# Altium footprint library SOP_65P_N.PcbLib: 37 footprints (part 1 of 3)
Each footprint in its own frame and in the unit in brackets; x right, y up, seen from the top. Pads: shape width x height; smd on the part's side, far side on the other; paste and mask are expansions set on the pad; w line width, h text height; cw(c..) or ccw(c..) is an arc to the next point about the centre after c.
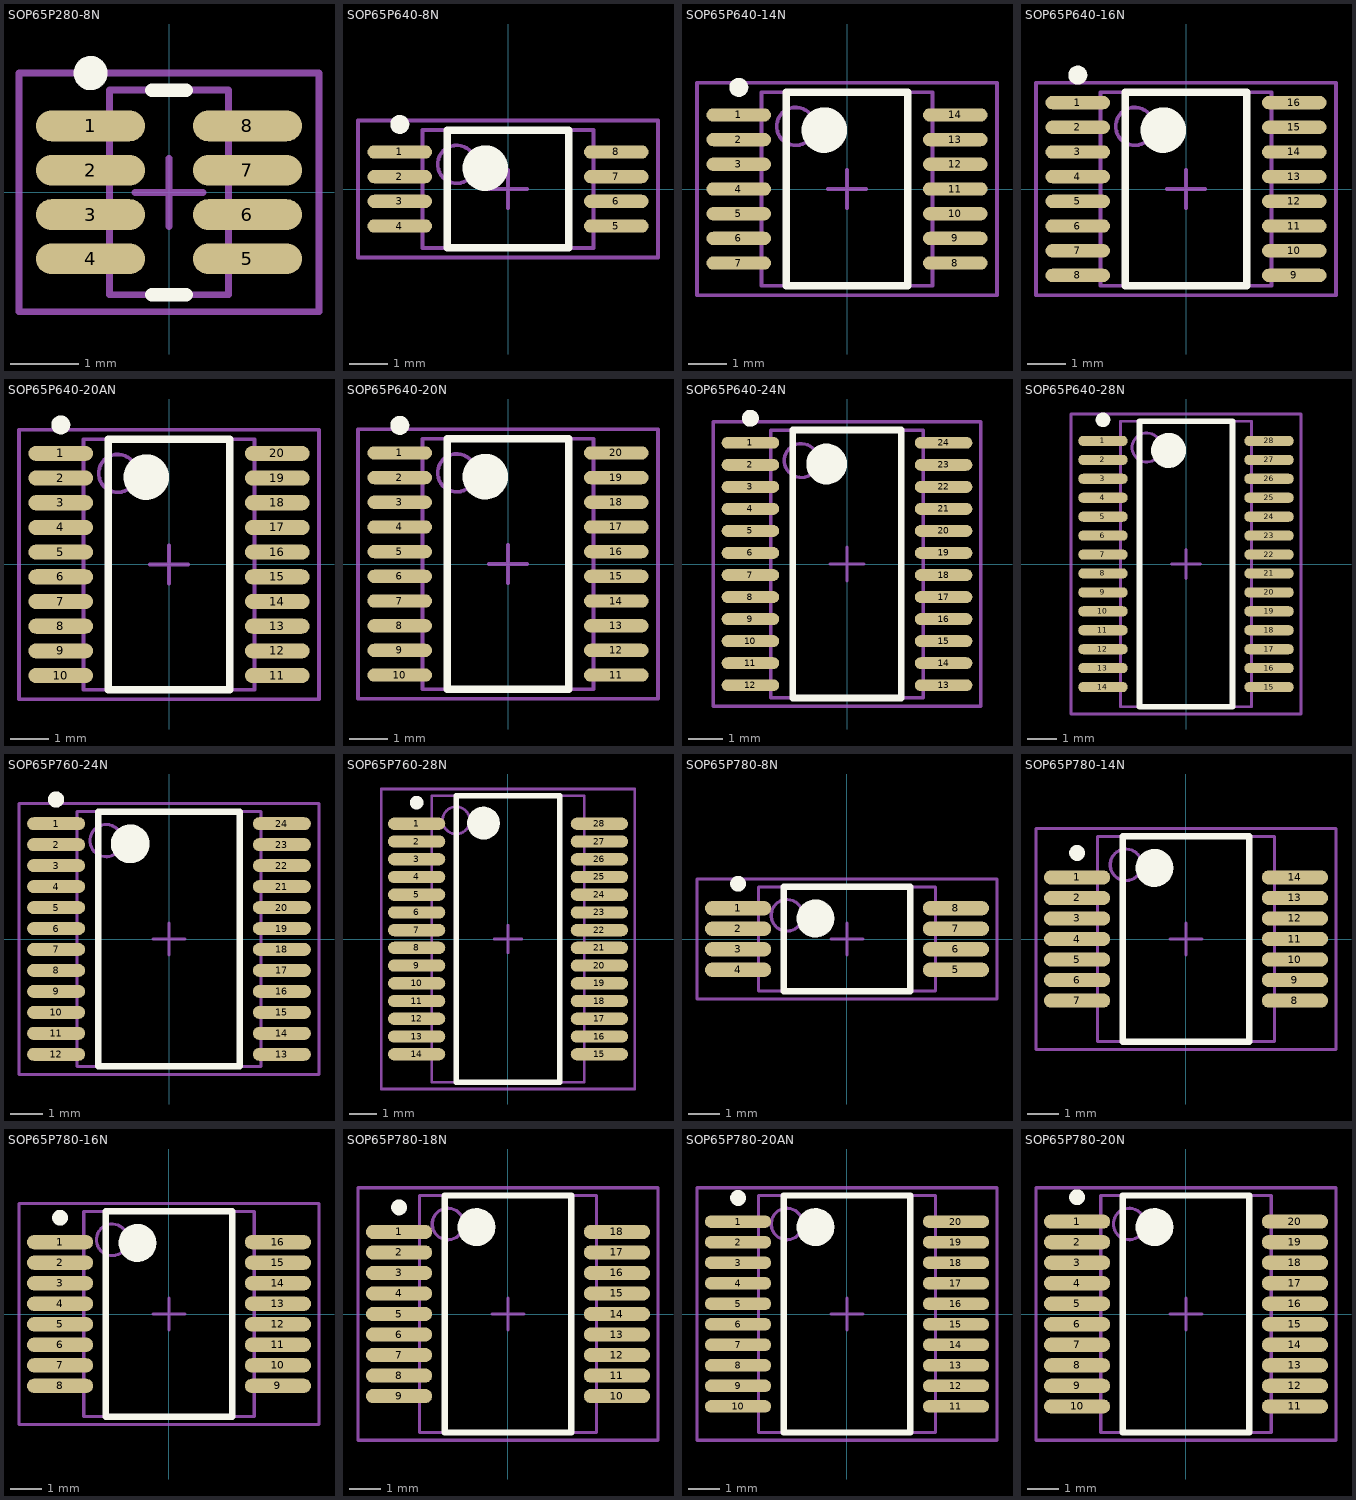
[diagram p0: the footprints below, top view; thin cyan lines are the x and y axes]

## SOP65P280-8N [mm] "SOP, 8-Leads, Body 2.9x1.6mm, Pitch 0.65mm, IPC Medium Density"
height 1.45
pads (8):
  oval 1.6x0.45 smd: 1(-1.15,0.975) 2(-1.15,0.325) 3(-1.15,-0.325) 4(-1.15,-0.975) 5(1.15,-0.975) 6(1.15,-0.325) 7(1.15,0.325) 8(1.15,0.975)
Top Overlay:
  circle w0.25: c-1.15,1.75 r0.125
  lines w0.2: -0.25,-1.5 0.25,-1.5 ; -0.25,1.5 0.25,1.5
Mechanical 13:
  lines w0.1: -0.875,-1.5 0.875,-1.5 0.875,1.5 -0.875,1.5 -0.875,-1.5
Mechanical 15:
  lines w0.1: -0.5,0 0.5,0 ; 0,-0.5 0,0.5 ; -2.2,-1.75 2.2,-1.75 2.2,1.75 -2.2,1.75 -2.2,-1.75
3D body: height 1.45, standoff 0, extent -0.875,-1.5 0.875,1.5

## SOP65P640-8N [mm] "SOP, 8-Leads, Body 3x4.4mm, Pitch 0.65mm, IPC Medium Density"
height 2
pads (8):
  oval 1.7x0.35 smd: 1(-2.85,0.975) 2(-2.85,0.325) 3(-2.85,-0.325) 4(-2.85,-0.975) 5(2.85,-0.975) 6(2.85,-0.325) 7(2.85,0.325) 8(2.85,0.975)
Top Overlay:
  circle w0.6: c-0.6,0.55 r0.3
  circle w0.25: c-2.85,1.7 r0.125
  lines w0.2: -1.6,-1.55 1.6,-1.55 1.6,1.55 -1.6,1.55 -1.6,-1.55
Mechanical 13:
  circle w0.1: c-1.35,0.65 r0.5
  lines w0.1: -2.25,-1.55 2.25,-1.55 2.25,1.55 -2.25,1.55 -2.25,-1.55
Mechanical 15:
  lines w0.1: -0.5,0 0.5,0 ; 0,-0.5 0,0.5 ; -3.95,-1.8 3.95,-1.8 3.95,1.8 -3.95,1.8 -3.95,-1.8
3D body: height 2, standoff 0, extent -2.25,-1.55 2.25,1.55

## SOP65P640-14N [mm] "SOP, 14-Leads, Body 5x4.4mm, Pitch 0.65mm, IPC Medium Density"
height 2
pads (14):
  oval 1.7x0.35 smd: 1(-2.85,1.95) 2(-2.85,1.3) 3(-2.85,0.65) 4(-2.85,0) 5(-2.85,-0.65) 6(-2.85,-1.3) 7(-2.85,-1.95) 8(2.85,-1.95) 9(2.85,-1.3) 10(2.85,-0.65) 11(2.85,0) 12(2.85,0.65) 13(2.85,1.3) 14(2.85,1.95)
Top Overlay:
  circle w0.6: c-0.6,1.55 r0.3
  circle w0.25: c-2.85,2.675 r0.125
  lines w0.2: -1.6,-2.55 1.6,-2.55 1.6,2.55 -1.6,2.55 -1.6,-2.55
Mechanical 13:
  circle w0.1: c-1.35,1.65 r0.5
  lines w0.1: -2.25,-2.55 2.25,-2.55 2.25,2.55 -2.25,2.55 -2.25,-2.55
Mechanical 15:
  lines w0.1: -0.5,0 0.5,0 ; 0,-0.5 0,0.5 ; -3.95,-2.8 3.95,-2.8 3.95,2.8 -3.95,2.8 -3.95,-2.8
3D body: height 2, standoff 0, extent -2.25,-2.55 2.25,2.55

## SOP65P640-16N [mm] "SOP, 16-Leads, Body 5x4.4mm, Pitch 0.65mm, IPC Medium Density"
height 2
pads (16):
  oval 1.7x0.35 smd: 1(-2.85,2.275) 2(-2.85,1.625) 3(-2.85,0.975) 4(-2.85,0.325) 5(-2.85,-0.325) 6(-2.85,-0.975) 7(-2.85,-1.625) 8(-2.85,-2.275) 9(2.85,-2.275) 10(2.85,-1.625) 11(2.85,-0.975) 12(2.85,-0.325) 13(2.85,0.325) 14(2.85,0.975) 15(2.85,1.625) 16(2.85,2.275)
Top Overlay:
  circle w0.6: c-0.6,1.55 r0.3
  circle w0.25: c-2.85,3 r0.125
  lines w0.2: -1.6,-2.55 1.6,-2.55 1.6,2.55 -1.6,2.55 -1.6,-2.55
Mechanical 13:
  circle w0.1: c-1.35,1.65 r0.5
  lines w0.1: -2.25,-2.55 2.25,-2.55 2.25,2.55 -2.25,2.55 -2.25,-2.55
Mechanical 15:
  lines w0.1: -0.5,0 0.5,0 ; 0,-0.5 0,0.5 ; -3.95,-2.8 3.95,-2.8 3.95,2.8 -3.95,2.8 -3.95,-2.8
3D body: height 2, standoff 0, extent -2.25,-2.55 2.25,2.55

## SOP65P640-20AN [mm] "SOP, 20-Leads, Body 6.5x4.4mm, Pitch 0.65mm, IPC Medium Density"
height 1.45
pads (20):
  oval 1.7x0.4 smd: 1(-2.85,2.925) 2(-2.85,2.275) 3(-2.85,1.625) 4(-2.85,0.975) 5(-2.85,0.325) 6(-2.85,-0.325) 7(-2.85,-0.975) 8(-2.85,-1.625) 9(-2.85,-2.275) 10(-2.85,-2.925) 11(2.85,-2.925) 12(2.85,-2.275) 13(2.85,-1.625) 14(2.85,-0.975) 15(2.85,-0.325) 16(2.85,0.325) 17(2.85,0.975) 18(2.85,1.625) 19(2.85,2.275) 20(2.85,2.925)
Top Overlay:
  circle w0.6: c-0.6,2.3 r0.3
  circle w0.25: c-2.85,3.675 r0.125
  lines w0.2: -1.6,-3.3 1.6,-3.3 1.6,3.3 -1.6,3.3 -1.6,-3.3
Mechanical 13:
  circle w0.1: c-1.35,2.4 r0.5
  lines w0.1: -2.25,-3.3 2.25,-3.3 2.25,3.3 -2.25,3.3 -2.25,-3.3
Mechanical 15:
  lines w0.1: -0.5,0 0.5,0 ; 0,-0.5 0,0.5 ; -3.95,-3.55 3.95,-3.55 3.95,3.55 -3.95,3.55 -3.95,-3.55
3D body: height 1.45, standoff 0, extent -2.25,-3.3 2.25,3.3

## SOP65P640-20N [mm] "SOP, 20-Leads, Body 6.5x4.4mm, Pitch 0.65mm, IPC Medium Density"
height 2
pads (20):
  oval 1.7x0.35 smd: 1(-2.85,2.925) 2(-2.85,2.275) 3(-2.85,1.625) 4(-2.85,0.975) 5(-2.85,0.325) 6(-2.85,-0.325) 7(-2.85,-0.975) 8(-2.85,-1.625) 9(-2.85,-2.275) 10(-2.85,-2.925) 11(2.85,-2.925) 12(2.85,-2.275) 13(2.85,-1.625) 14(2.85,-0.975) 15(2.85,-0.325) 16(2.85,0.325) 17(2.85,0.975) 18(2.85,1.625) 19(2.85,2.275) 20(2.85,2.925)
Top Overlay:
  circle w0.6: c-0.6,2.3 r0.3
  circle w0.25: c-2.85,3.65 r0.125
  lines w0.2: -1.6,-3.3 1.6,-3.3 1.6,3.3 -1.6,3.3 -1.6,-3.3
Mechanical 13:
  circle w0.1: c-1.35,2.4 r0.5
  lines w0.1: -2.25,-3.3 2.25,-3.3 2.25,3.3 -2.25,3.3 -2.25,-3.3
Mechanical 15:
  lines w0.1: -0.5,0 0.5,0 ; 0,-0.5 0,0.5 ; -3.95,-3.55 3.95,-3.55 3.95,3.55 -3.95,3.55 -3.95,-3.55
3D body: height 2, standoff 0, extent -2.25,-3.3 2.25,3.3

## SOP65P640-24N [mm] "SOP, 24-Leads, Body 7.8x4.4mm, Pitch 0.65mm, IPC Medium Density"
height 2
pads (24):
  oval 1.7x0.35 smd: 1(-2.85,3.575) 2(-2.85,2.925) 3(-2.85,2.275) 4(-2.85,1.625) 5(-2.85,0.975) 6(-2.85,0.325) 7(-2.85,-0.325) 8(-2.85,-0.975) 9(-2.85,-1.625) 10(-2.85,-2.275) 11(-2.85,-2.925) 12(-2.85,-3.575) 13(2.85,-3.575) 14(2.85,-2.925) 15(2.85,-2.275) 16(2.85,-1.625) 17(2.85,-0.975) 18(2.85,-0.325) 19(2.85,0.325) 20(2.85,0.975) 21(2.85,1.625) 22(2.85,2.275) 23(2.85,2.925) 24(2.85,3.575)
Top Overlay:
  circle w0.6: c-0.6,2.95 r0.3
  circle w0.25: c-2.85,4.3 r0.125
  lines w0.2: -1.6,-3.95 1.6,-3.95 1.6,3.95 -1.6,3.95 -1.6,-3.95
Mechanical 13:
  circle w0.1: c-1.35,3.05 r0.5
  lines w0.1: -2.25,-3.95 2.25,-3.95 2.25,3.95 -2.25,3.95 -2.25,-3.95
Mechanical 15:
  lines w0.1: -0.5,0 0.5,0 ; 0,-0.5 0,0.5 ; -3.95,-4.2 3.95,-4.2 3.95,4.2 -3.95,4.2 -3.95,-4.2
3D body: height 2, standoff 0, extent -2.25,-3.95 2.25,3.95

## SOP65P640-28N [mm] "SOP, 28-Leads, Body 9.7x4.4mm, Pitch 0.65mm, IPC Medium Density"
height 2
pads (28):
  oval 1.7x0.35 smd: 1(-2.85,4.225) 2(-2.85,3.575) 3(-2.85,2.925) 4(-2.85,2.275) 5(-2.85,1.625) 6(-2.85,0.975) 7(-2.85,0.325) 8(-2.85,-0.325) 9(-2.85,-0.975) 10(-2.85,-1.625) 11(-2.85,-2.275) 12(-2.85,-2.925) 13(-2.85,-3.575) 14(-2.85,-4.225) 15(2.85,-4.225) 16(2.85,-3.575) 17(2.85,-2.925) 18(2.85,-2.275) 19(2.85,-1.625) 20(2.85,-0.975) 21(2.85,-0.325) 22(2.85,0.325) 23(2.85,0.975) 24(2.85,1.625) 25(2.85,2.275) 26(2.85,2.925) 27(2.85,3.575) 28(2.85,4.225)
Top Overlay:
  circle w0.6: c-0.6,3.9 r0.3
  circle w0.25: c-2.85,4.95 r0.125
  lines w0.2: -1.6,-4.9 1.6,-4.9 1.6,4.9 -1.6,4.9 -1.6,-4.9
Mechanical 13:
  circle w0.1: c-1.35,4 r0.5
  lines w0.1: -2.25,-4.9 2.25,-4.9 2.25,4.9 -2.25,4.9 -2.25,-4.9
Mechanical 15:
  lines w0.1: -0.5,0 0.5,0 ; 0,-0.5 0,0.5 ; -3.95,-5.15 3.95,-5.15 3.95,5.15 -3.95,5.15 -3.95,-5.15
3D body: height 2, standoff 0, extent -2.25,-4.9 2.25,4.9

## SOP65P760-24N [mm] "SOP, 24-Leads, Body 7.8x5.6mm, Pitch 0.65mm, IPC Medium Density"
height 1.45
pads (24):
  oval 1.8x0.4 smd: 1(-3.5,3.575) 2(-3.5,2.925) 3(-3.5,2.275) 4(-3.5,1.625) 5(-3.5,0.975) 6(-3.5,0.325) 7(-3.5,-0.325) 8(-3.5,-0.975) 9(-3.5,-1.625) 10(-3.5,-2.275) 11(-3.5,-2.925) 12(-3.5,-3.575) 13(3.5,-3.575) 14(3.5,-2.925) 15(3.5,-2.275) 16(3.5,-1.625) 17(3.5,-0.975) 18(3.5,-0.325) 19(3.5,0.325) 20(3.5,0.975) 21(3.5,1.625) 22(3.5,2.275) 23(3.5,2.925) 24(3.5,3.575)
Top Overlay:
  circle w0.6: c-1.2,2.95 r0.3
  circle w0.25: c-3.5,4.325 r0.125
  lines w0.2: -2.2,-3.95 2.2,-3.95 2.2,3.95 -2.2,3.95 -2.2,-3.95
Mechanical 13:
  circle w0.1: c-1.95,3.05 r0.5
  lines w0.1: -2.85,-3.95 2.85,-3.95 2.85,3.95 -2.85,3.95 -2.85,-3.95
Mechanical 15:
  lines w0.1: -0.5,0 0.5,0 ; 0,-0.5 0,0.5 ; -4.65,-4.2 4.65,-4.2 4.65,4.2 -4.65,4.2 -4.65,-4.2
3D body: height 1.45, standoff 0, extent -2.85,-3.95 2.85,3.95

## SOP65P760-28N [mm] "SOP, 28-Leads, Body 10.2x5.3mm, Pitch 0.65mm, IPC Medium Density"
height 2
pads (28):
  oval 2.1x0.45 smd: 1(-3.35,4.225) 2(-3.35,3.575) 3(-3.35,2.925) 4(-3.35,2.275) 5(-3.35,1.625) 6(-3.35,0.975) 7(-3.35,0.325) 8(-3.35,-0.325) 9(-3.35,-0.975) 10(-3.35,-1.625) 11(-3.35,-2.275) 12(-3.35,-2.925) 13(-3.35,-3.575) 14(-3.35,-4.225) 15(3.35,-4.225) 16(3.35,-3.575) 17(3.35,-2.925) 18(3.35,-2.275) 19(3.35,-1.625) 20(3.35,-0.975) 21(3.35,-0.325) 22(3.35,0.325) 23(3.35,0.975) 24(3.35,1.625) 25(3.35,2.275) 26(3.35,2.925) 27(3.35,3.575) 28(3.35,4.225)
Top Overlay:
  circle w0.6: c-0.9,4.25 r0.3
  circle w0.25: c-3.35,5 r0.125
  lines w0.2: -1.9,-5.25 1.9,-5.25 1.9,5.25 -1.9,5.25 -1.9,-5.25
Mechanical 13:
  circle w0.1: c-1.9,4.35 r0.5
  lines w0.1: -2.8,-5.25 2.8,-5.25 2.8,5.25 -2.8,5.25 -2.8,-5.25
Mechanical 15:
  lines w0.1: -0.5,0 0.5,0 ; 0,-0.5 0,0.5 ; -4.65,-5.5 4.65,-5.5 4.65,5.5 -4.65,5.5 -4.65,-5.5
3D body: height 2, standoff 0, extent -2.8,-5.25 2.8,5.25

## SOP65P780-8N [mm] "SOP, 8-Leads, Body 3x5.3mm, Pitch 0.65mm, IPC Medium Density"
height 2
pads (8):
  oval 2.1x0.45 smd: 1(-3.45,0.975) 2(-3.45,0.325) 3(-3.45,-0.325) 4(-3.45,-0.975) 5(3.45,-0.975) 6(3.45,-0.325) 7(3.45,0.325) 8(3.45,0.975)
Top Overlay:
  circle w0.6: c-1,0.65 r0.3
  circle w0.25: c-3.45,1.75 r0.125
  lines w0.2: -2,-1.65 2,-1.65 2,1.65 -2,1.65 -2,-1.65
Mechanical 13:
  circle w0.1: c-1.9,0.75 r0.5
  lines w0.1: -2.8,-1.65 2.8,-1.65 2.8,1.65 -2.8,1.65 -2.8,-1.65
Mechanical 15:
  lines w0.1: -0.5,0 0.5,0 ; 0,-0.5 0,0.5 ; -4.75,-1.9 4.75,-1.9 4.75,1.9 -4.75,1.9 -4.75,-1.9
3D body: height 2, standoff 0, extent -2.8,-1.65 2.8,1.65

## SOP65P780-14N [mm] "SOP, 14-Leads, Body 6.2x5.3mm, Pitch 0.65mm, IPC Medium Density"
height 2
pads (14):
  oval 2.1x0.45 smd: 1(-3.45,1.95) 2(-3.45,1.3) 3(-3.45,0.65) 4(-3.45,0) 5(-3.45,-0.65) 6(-3.45,-1.3) 7(-3.45,-1.95) 8(3.45,-1.95) 9(3.45,-1.3) 10(3.45,-0.65) 11(3.45,0) 12(3.45,0.65) 13(3.45,1.3) 14(3.45,1.95)
Top Overlay:
  circle w0.6: c-1,2.25 r0.3
  circle w0.25: c-3.45,2.725 r0.125
  lines w0.2: -2,-3.25 2,-3.25 2,3.25 -2,3.25 -2,-3.25
Mechanical 13:
  circle w0.1: c-1.9,2.35 r0.5
  lines w0.1: -2.8,-3.25 2.8,-3.25 2.8,3.25 -2.8,3.25 -2.8,-3.25
Mechanical 15:
  lines w0.1: -0.5,0 0.5,0 ; 0,-0.5 0,0.5 ; -4.75,-3.5 4.75,-3.5 4.75,3.5 -4.75,3.5 -4.75,-3.5
3D body: height 2, standoff 0, extent -2.8,-3.25 2.8,3.25

## SOP65P780-16N [mm] "SOP, 16-Leads, Body 6.2x5.3mm, Pitch 0.65mm, IPC Medium Density"
height 2
pads (16):
  oval 2.1x0.45 smd: 1(-3.45,2.275) 2(-3.45,1.625) 3(-3.45,0.975) 4(-3.45,0.325) 5(-3.45,-0.325) 6(-3.45,-0.975) 7(-3.45,-1.625) 8(-3.45,-2.275) 9(3.45,-2.275) 10(3.45,-1.625) 11(3.45,-0.975) 12(3.45,-0.325) 13(3.45,0.325) 14(3.45,0.975) 15(3.45,1.625) 16(3.45,2.275)
Top Overlay:
  circle w0.6: c-1,2.25 r0.3
  circle w0.25: c-3.45,3.05 r0.125
  lines w0.2: -2,-3.25 2,-3.25 2,3.25 -2,3.25 -2,-3.25
Mechanical 13:
  circle w0.1: c-1.8,2.35 r0.5
  lines w0.1: -2.7,-3.25 2.7,-3.25 2.7,3.25 -2.7,3.25 -2.7,-3.25
Mechanical 15:
  lines w0.1: -0.5,0 0.5,0 ; 0,-0.5 0,0.5 ; -4.75,-3.5 4.75,-3.5 4.75,3.5 -4.75,3.5 -4.75,-3.5
3D body: height 2, standoff 0, extent -2.7,-3.25 2.7,3.25

## SOP65P780-18N [mm] "SOP, 18-Leads, Body 7.2x5.3mm, Pitch 0.65mm, IPC Medium Density"
height 2
pads (18):
  oval 2.1x0.45 smd: 1(-3.45,2.6) 2(-3.45,1.95) 3(-3.45,1.3) 4(-3.45,0.65) 5(-3.45,0) 6(-3.45,-0.65) 7(-3.45,-1.3) 8(-3.45,-1.95) 9(-3.45,-2.6) 10(3.45,-2.6) 11(3.45,-1.95) 12(3.45,-1.3) 13(3.45,-0.65) 14(3.45,0) 15(3.45,0.65) 16(3.45,1.3) 17(3.45,1.95) 18(3.45,2.6)
Top Overlay:
  circle w0.6: c-1,2.75 r0.3
  circle w0.25: c-3.45,3.375 r0.125
  lines w0.2: -2,-3.75 2,-3.75 2,3.75 -2,3.75 -2,-3.75
Mechanical 13:
  circle w0.1: c-1.9,2.85 r0.5
  lines w0.1: -2.8,-3.75 2.8,-3.75 2.8,3.75 -2.8,3.75 -2.8,-3.75
Mechanical 15:
  lines w0.1: -0.5,0 0.5,0 ; 0,-0.5 0,0.5 ; -4.75,-4 4.75,-4 4.75,4 -4.75,4 -4.75,-4
3D body: height 2, standoff 0, extent -2.8,-3.75 2.8,3.75

## SOP65P780-20AN [mm] "SOP, 20-Leads, Body 7.2x5.3mm, Pitch 0.65mm, IPC Medium Density"
height 2
pads (20):
  oval 2.1x0.4 smd: 1(-3.45,2.925) 2(-3.45,2.275) 3(-3.45,1.625) 4(-3.45,0.975) 5(-3.45,0.325) 6(-3.45,-0.325) 7(-3.45,-0.975) 8(-3.45,-1.625) 9(-3.45,-2.275) 10(-3.45,-2.925) 11(3.45,-2.925) 12(3.45,-2.275) 13(3.45,-1.625) 14(3.45,-0.975) 15(3.45,-0.325) 16(3.45,0.325) 17(3.45,0.975) 18(3.45,1.625) 19(3.45,2.275) 20(3.45,2.925)
Top Overlay:
  circle w0.6: c-1,2.75 r0.3
  circle w0.25: c-3.45,3.675 r0.125
  lines w0.2: -2,-3.75 2,-3.75 2,3.75 -2,3.75 -2,-3.75
Mechanical 13:
  circle w0.1: c-1.9,2.85 r0.5
  lines w0.1: -2.8,-3.75 2.8,-3.75 2.8,3.75 -2.8,3.75 -2.8,-3.75
Mechanical 15:
  lines w0.1: -0.5,0 0.5,0 ; 0,-0.5 0,0.5 ; -4.75,-4 4.75,-4 4.75,4 -4.75,4 -4.75,-4
3D body: height 2, standoff 0, extent -2.8,-3.75 2.8,3.75

## SOP65P780-20N [mm] "SOP, 20-Leads, Body 7.2x5.3mm, Pitch 0.65mm, IPC Medium Density"
height 1.98
pads (20):
  oval 2.1x0.45 smd: 1(-3.45,2.925) 2(-3.45,2.275) 3(-3.45,1.625) 4(-3.45,0.975) 5(-3.45,0.325) 6(-3.45,-0.325) 7(-3.45,-0.975) 8(-3.45,-1.625) 9(-3.45,-2.275) 10(-3.45,-2.925) 11(3.45,-2.925) 12(3.45,-2.275) 13(3.45,-1.625) 14(3.45,-0.975) 15(3.45,-0.325) 16(3.45,0.325) 17(3.45,0.975) 18(3.45,1.625) 19(3.45,2.275) 20(3.45,2.925)
Top Overlay:
  circle w0.6: c-1,2.75 r0.3
  circle w0.25: c-3.45,3.7 r0.125
  lines w0.2: -2,-3.75 2,-3.75 2,3.75 -2,3.75 -2,-3.75
Mechanical 13:
  circle w0.1: c-1.8,2.85 r0.5
  lines w0.1: -2.7,-3.75 2.7,-3.75 2.7,3.75 -2.7,3.75 -2.7,-3.75
Mechanical 15:
  lines w0.1: -0.5,0 0.5,0 ; 0,-0.5 0,0.5 ; -4.75,-4 4.75,-4 4.75,4 -4.75,4 -4.75,-4
3D body: height 1.98, standoff 0, extent -2.7,-3.75 2.7,3.75